# EAGLE library part PIC18F2685 (library Shell2013 (1))
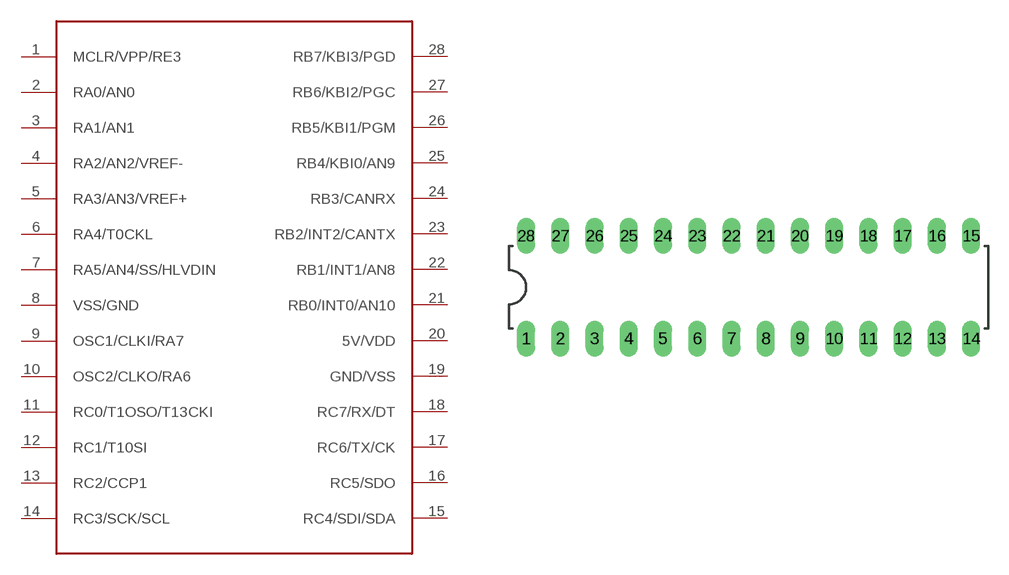
[diagram p1: symbol with the pads of DIP28; footprint DIP28]

Designator prefix -

## PIC18F2685  [DIP28]
1  MCLR/VPP/RE3
2  RA0/AN0
3  RA1/AN1
4  RA2/AN2/VREF-
5  RA3/AN3/VREF+
6  RA4/T0CKL
7  RA5/AN4/SS/HLVDIN
8  VSS/GND
9  OSC1/CLKI/RA7
10  OSC2/CLKO/RA6
11  RC0/T1OSO/T13CKI
12  RC1/T10SI
13  RC2/CCP1
14  RC3/SCK/SCL
15  RC4/SDI/SDA
16  RC5/SDO
17  RC6/TX/CK
18  RC7/RX/DT
19  GND/VSS
20  5V/VDD
21  RB0/INT0/AN10
22  RB1/INT1/AN8
23  RB2/INT2/CANTX
24  RB3/CANRX
25  RB4/KBI0/AN9
26  RB5/KBI1/PGM
27  RB6/KBI2/PGC
28  RB7/KBI3/PGD

## Footprint DIP28 (pad centres in mm)
drill 0.813 long: 1 1.27,-3.81; 2 3.81,-3.81; 3 6.35,-3.81; 4 8.89,-3.81; 5 11.43,-3.81; 6 13.97,-3.81; 7 16.51,-3.81; 8 19.05,-3.81; 9 21.59,-3.81; 10 24.13,-3.81; 11 26.67,-3.81; 12 29.21,-3.81; 13 31.75,-3.81; 14 34.29,-3.81; 15 34.29,3.81; 16 31.75,3.81; 17 29.21,3.81; 18 26.67,3.81; 19 24.13,3.81; 20 21.59,3.81; 21 19.05,3.81; 22 16.51,3.81; 23 13.97,3.81; 24 11.43,3.81; 25 8.89,3.81; 26 6.35,3.81; 27 3.81,3.81; 28 1.27,3.81